# Altium schematic symbol library WCAP-PTHR.SchLib: 32 symbols
Pins are listed as number, name and electrical type; pins without a type are passive.

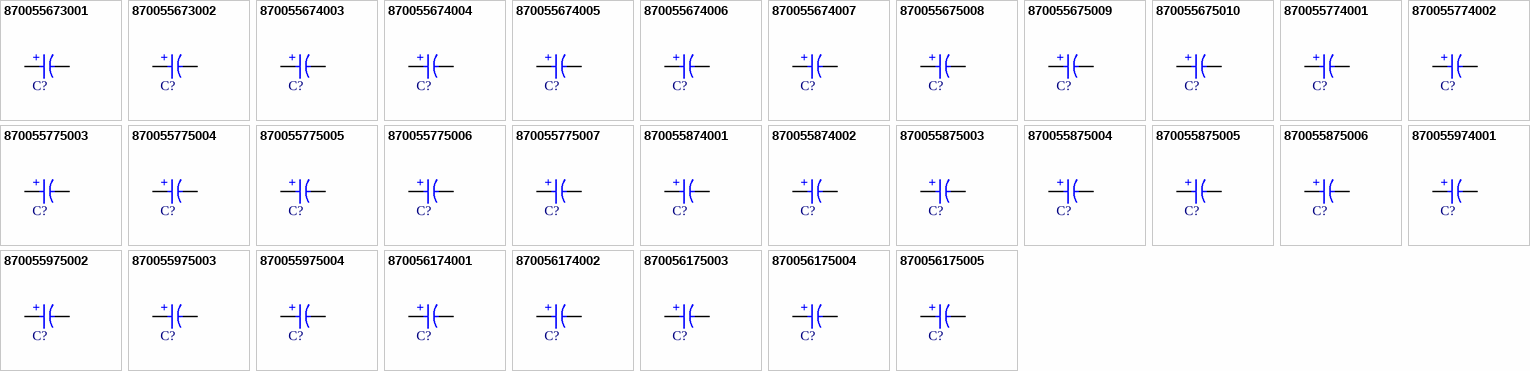
[diagram p0: symbols 870055673001 to 870056175005]

## 870055673001
designator C?, comment 10µF  (value not drawn)
WCAP-PTHR Aluminum Polymer Capacitor, Radial THT, D6.3 x H8mm, 10µF, 35V; Manufacturer Part Number: 870055673001; Manufacturer: Wurth Elektronik; Capacitance Tolerance: +/-20%; Dissipation Factor: 12%; Endurance: 2000h; ESR: 40mΩ; Leakage Current: 100µA; Ripple Current: 2100mA; Technical Reference: PTED080100M035DSPA4B000; Category: Aluminum Polymer Capacitors; Match Code: WCAP-PTHR; ComponentLink1Description: Website Link; ComponentLink1URL: https://www.we-online.com/redexpert/article/870055673001?ad; ComponentLink2Description: Datasheet Link; ComponentLink2URL: https://www.we-online.com/redexpert/spec/870055673001?ad; Mount: Through Hole; Operating Temperature Max: 105°C; Operating Temperature Min: -55°C; Packaging: Ammo Pack; Height: 8mm; Diameter: 6.3mm; Capacitance: 10µF; Rated Voltage (DC): 35V
footprint WCAP-PTHR_D6.3H8
simulation model 870055673001_10uF
pins: 1 P, 2 N
text: +

## 870055673002
designator C?, comment 22µF  (value not drawn)
WCAP-PTHR Aluminum Polymer Capacitor, Radial THT, D6.3 x H8mm, 22µF, 35V; Manufacturer Part Number: 870055673002; Manufacturer: Wurth Elektronik; Capacitance Tolerance: +/-20%; Dissipation Factor: 12%; Endurance: 2000h; ESR: 40mΩ; Leakage Current: 154µA; Ripple Current: 2100mA; Technical Reference: PTED080220M035DSPA4B000; Category: Aluminum Polymer Capacitors; Match Code: WCAP-PTHR; ComponentLink1Description: Website Link; ComponentLink1URL: https://www.we-online.com/redexpert/article/870055673002?ad; ComponentLink2Description: Datasheet Link; ComponentLink2URL: https://www.we-online.com/redexpert/spec/870055673002?ad; Mount: Through Hole; Operating Temperature Max: 105°C; Operating Temperature Min: -55°C; Packaging: Ammo Pack; Height: 8mm; Diameter: 6.3mm; Capacitance: 22µF; Rated Voltage (DC): 35V
footprint WCAP-PTHR_D6.3H8
simulation model 870055673002_22uF
pins: 1 P, 2 N
text: +

## 870055674003
designator C?, comment 33µF  (value not drawn)
WCAP-PTHR Aluminum Polymer Capacitor, Radial THT, D8 x H8mm, 33µF, 35V; Manufacturer Part Number: 870055674003; Manufacturer: Wurth Elektronik; Capacitance Tolerance: +/-20%; Dissipation Factor: 12%; Endurance: 2000h; ESR: 30mΩ; Leakage Current: 231µA; Ripple Current: 2500mA; Technical Reference: PTEE080330M035DSPA7B000; Category: Aluminum Polymer Capacitors; Match Code: WCAP-PTHR; ComponentLink1Description: Website Link; ComponentLink1URL: https://www.we-online.com/redexpert/article/870055674003?ad; ComponentLink2Description: Datasheet Link; ComponentLink2URL: https://www.we-online.com/redexpert/spec/870055674003?ad; Mount: Through Hole; Operating Temperature Max: 105°C; Operating Temperature Min: -55°C; Packaging: Ammo Pack; Height: 8mm; Diameter: 8mm; Capacitance: 33µF; Rated Voltage (DC): 35V
footprint WCAP-PTHR_D8H8
simulation model 870055674003_33uF
pins: 1 P, 2 N
text: +

## 870055674004
designator C?, comment 39µF  (value not drawn)
WCAP-PTHR Aluminum Polymer Capacitor, Radial THT, D8 x H8mm, 39µF, 35V; Manufacturer Part Number: 870055674004; Manufacturer: Wurth Elektronik; Capacitance Tolerance: +/-20%; Dissipation Factor: 12%; Endurance: 2000h; ESR: 30mΩ; Leakage Current: 273µA; Ripple Current: 2500mA; Technical Reference: PTEE080390M035DSPA7B000; Category: Aluminum Polymer Capacitors; Match Code: WCAP-PTHR; ComponentLink1Description: Website Link; ComponentLink1URL: https://www.we-online.com/redexpert/article/870055674004?ad; ComponentLink2Description: Datasheet Link; ComponentLink2URL: https://www.we-online.com/redexpert/spec/870055674004?ad; Mount: Through Hole; Operating Temperature Max: 105°C; Operating Temperature Min: -55°C; Packaging: Ammo Pack; Height: 8mm; Diameter: 8mm; Capacitance: 39µF; Rated Voltage (DC): 35V
footprint WCAP-PTHR_D8H8
simulation model 870055674004_39uF
pins: 1 P, 2 N
text: +

## 870055674005
designator C?, comment 47µF  (value not drawn)
WCAP-PTHR Aluminum Polymer Capacitor, Radial THT, D8 x H11.5mm, 47µF, 35V; Manufacturer Part Number: 870055674005; Manufacturer: Wurth Elektronik; Capacitance Tolerance: +/-20%; Dissipation Factor: 12%; Endurance: 2000h; ESR: 25mΩ; Leakage Current: 329µA; Ripple Current: 2890mA; Technical Reference: PTEE115470M035DSPA7B000; Category: Aluminum Polymer Capacitors; Match Code: WCAP-PTHR; ComponentLink1Description: Website Link; ComponentLink1URL: https://www.we-online.com/redexpert/article/870055674005?ad; ComponentLink2Description: Datasheet Link; ComponentLink2URL: https://www.we-online.com/redexpert/spec/870055674005?ad; Mount: Through Hole; Operating Temperature Max: 105°C; Operating Temperature Min: -55°C; Packaging: Ammo Pack; Height: 11.5mm; Diameter: 8mm; Capacitance: 47µF; Rated Voltage (DC): 35V
footprint WCAP-PTHR_D8H11.5
simulation model 870055674005_47uF
pins: 1 P, 2 N
text: +

## 870055674006
designator C?, comment 56µF  (value not drawn)
WCAP-PTHR Aluminum Polymer Capacitor, Radial THT, D8 x H11.5mm, 56µF, 35V; Manufacturer Part Number: 870055674006; Manufacturer: Wurth Elektronik; Capacitance Tolerance: +/-20%; Dissipation Factor: 12%; Endurance: 2000h; ESR: 25mΩ; Leakage Current: 392µA; Ripple Current: 2890mA; Technical Reference: PTEE115560M035DSPA7B000; Category: Aluminum Polymer Capacitors; Match Code: WCAP-PTHR; ComponentLink1Description: Website Link; ComponentLink1URL: https://www.we-online.com/redexpert/article/870055674006?ad; ComponentLink2Description: Datasheet Link; ComponentLink2URL: https://www.we-online.com/redexpert/spec/870055674006?ad; Mount: Through Hole; Operating Temperature Max: 105°C; Operating Temperature Min: -55°C; Packaging: Ammo Pack; Height: 11.5mm; Diameter: 8mm; Capacitance: 56µF; Rated Voltage (DC): 35V
footprint WCAP-PTHR_D8H11.5
simulation model 870055674006_56uF
pins: 1 P, 2 N
text: +

## 870055674007
designator C?, comment 68µF  (value not drawn)
WCAP-PTHR Aluminum Polymer Capacitor, Radial THT, D8 x H11.5mm, 68µF, 35V; Manufacturer Part Number: 870055674007; Manufacturer: Wurth Elektronik; Capacitance Tolerance: +/-20%; Dissipation Factor: 12%; Endurance: 2000h; ESR: 25mΩ; Leakage Current: 476µA; Ripple Current: 2890mA; Technical Reference: PTEE115680M035DSPA7B000; Category: Aluminum Polymer Capacitors; Match Code: WCAP-PTHR; ComponentLink1Description: Website Link; ComponentLink1URL: https://www.we-online.com/redexpert/article/870055674007?ad; ComponentLink2Description: Datasheet Link; ComponentLink2URL: https://www.we-online.com/redexpert/spec/870055674007?ad; Mount: Through Hole; Operating Temperature Max: 105°C; Operating Temperature Min: -55°C; Packaging: Ammo Pack; Height: 11.5mm; Diameter: 8mm; Capacitance: 68µF; Rated Voltage (DC): 35V
footprint WCAP-PTHR_D8H11.5
simulation model 870055674007_68uF
pins: 1 P, 2 N
text: +

## 870055675008
designator C?, comment 82µF  (value not drawn)
WCAP-PTHR Aluminum Polymer Capacitor, Radial THT, D10 x H12.5mm, 82µF, 35V; Manufacturer Part Number: 870055675008; Manufacturer: Wurth Elektronik; Capacitance Tolerance: +/-20%; Dissipation Factor: 12%; Endurance: 2000h; ESR: 25mΩ; Leakage Current: 574µA; Ripple Current: 3700mA; Technical Reference: PTEF125820M035DSPA9B000; Category: Aluminum Polymer Capacitors; Match Code: WCAP-PTHR; ComponentLink1Description: Website Link; ComponentLink1URL: https://www.we-online.com/redexpert/article/870055675008?ad; ComponentLink2Description: Datasheet Link; ComponentLink2URL: https://www.we-online.com/redexpert/spec/870055675008?ad; Mount: Through Hole; Operating Temperature Max: 105°C; Operating Temperature Min: -55°C; Packaging: Ammo Pack; Height: 12.5mm; Diameter: 10mm; Capacitance: 82µF; Rated Voltage (DC): 35V
footprint WCAP-PTHR_D10H12.5
simulation model 870055675008_82uF
pins: 1 P, 2 N
text: +

## 870055675009
designator C?, comment 100µF  (value not drawn)
WCAP-PTHR Aluminum Polymer Capacitor, Radial THT, D10 x H12.5mm, 100µF, 35V; Manufacturer Part Number: 870055675009; Manufacturer: Wurth Elektronik; Capacitance Tolerance: +/-20%; Dissipation Factor: 12%; Endurance: 2000h; ESR: 25mΩ; Leakage Current: 700µA; Ripple Current: 3700mA; Technical Reference: PTEF125101M035DSPA9B000; Category: Aluminum Polymer Capacitors; Match Code: WCAP-PTHR; ComponentLink1Description: Website Link; ComponentLink1URL: https://www.we-online.com/redexpert/article/870055675009?ad; ComponentLink2Description: Datasheet Link; ComponentLink2URL: https://www.we-online.com/redexpert/spec/870055675009?ad; Mount: Through Hole; Operating Temperature Max: 105°C; Operating Temperature Min: -55°C; Packaging: Ammo Pack; Height: 12.5mm; Diameter: 10mm; Capacitance: 100µF; Rated Voltage (DC): 35V
footprint WCAP-PTHR_D10H12.5
simulation model 870055675009_100uF
pins: 1 P, 2 N
text: +

## 870055675010
designator C?, comment 150µF  (value not drawn)
WCAP-PTHR Aluminum Polymer Capacitor, Radial THT, D10 x H12.5mm, 150µF, 35V; Manufacturer Part Number: 870055675010; Manufacturer: Wurth Elektronik; Capacitance Tolerance: +/-20%; Dissipation Factor: 12%; Endurance: 2000h; ESR: 25mΩ; Leakage Current: 1050µA; Ripple Current: 3700mA; Technical Reference: PTEF125151M035DSPA9B000; Category: Aluminum Polymer Capacitors; Match Code: WCAP-PTHR; ComponentLink1Description: Website Link; ComponentLink1URL: https://www.we-online.com/redexpert/article/870055675010?ad; ComponentLink2Description: Datasheet Link; ComponentLink2URL: https://www.we-online.com/redexpert/spec/870055675010?ad; Mount: Through Hole; Operating Temperature Max: 105°C; Operating Temperature Min: -55°C; Packaging: Ammo Pack; Height: 12.5mm; Diameter: 10mm; Capacitance: 150µF; Rated Voltage (DC): 35V
footprint WCAP-PTHR_D10H12.5
simulation model 870055675010_150uF
pins: 1 P, 2 N
text: +

## 870055774001
designator C?, comment 10µF  (value not drawn)
WCAP-PTHR Aluminum Polymer Capacitor, Radial THT, D8 x H8mm, 10µF, 50V; Manufacturer Part Number: 870055774001; Manufacturer: Wurth Elektronik; Capacitance Tolerance: +/-20%; Dissipation Factor: 12%; Endurance: 2000h; ESR: 45mΩ; Leakage Current: 100µA; Ripple Current: 1500mA; Technical Reference: PTEE080100M050DSPA7B000; Category: Aluminum Polymer Capacitors; Match Code: WCAP-PTHR; ComponentLink1Description: Website Link; ComponentLink1URL: https://www.we-online.com/redexpert/article/870055774001?ad; ComponentLink2Description: Datasheet Link; ComponentLink2URL: https://www.we-online.com/redexpert/spec/870055774001?ad; Mount: Through Hole; Operating Temperature Max: 105°C; Operating Temperature Min: -55°C; Packaging: Ammo Pack; Height: 8mm; Diameter: 8mm; Capacitance: 10µF; Rated Voltage (DC): 50V
footprint WCAP-PTHR_D8H8
simulation model 870055774001_10uF
pins: 1 P, 2 N
text: +

## 870055774002
designator C?, comment 22µF  (value not drawn)
WCAP-PTHR Aluminum Polymer Capacitor, Radial THT, D8 x H11.5mm, 22µF, 50V; Manufacturer Part Number: 870055774002; Manufacturer: Wurth Elektronik; Capacitance Tolerance: +/-20%; Dissipation Factor: 12%; Endurance: 2000h; ESR: 40mΩ; Leakage Current: 220µA; Ripple Current: 1800mA; Technical Reference: PTEE115220M050DSPA7B000; Category: Aluminum Polymer Capacitors; Match Code: WCAP-PTHR; ComponentLink1Description: Website Link; ComponentLink1URL: https://www.we-online.com/redexpert/article/870055774002?ad; ComponentLink2Description: Datasheet Link; ComponentLink2URL: https://www.we-online.com/redexpert/spec/870055774002?ad; Mount: Through Hole; Operating Temperature Max: 105°C; Operating Temperature Min: -55°C; Packaging: Ammo Pack; Height: 11.5mm; Diameter: 8mm; Capacitance: 22µF; Rated Voltage (DC): 50V
footprint WCAP-PTHR_D8H11.5
simulation model 870055774002_22uF
pins: 1 P, 2 N
text: +

## 870055775003
designator C?, comment 33µF  (value not drawn)
WCAP-PTHR Aluminum Polymer Capacitor, Radial THT, D10 x H12.5mm, 33µF, 50V; Manufacturer Part Number: 870055775003; Manufacturer: Wurth Elektronik; Capacitance Tolerance: +/-20%; Dissipation Factor: 12%; Endurance: 2000h; ESR: 35mΩ; Leakage Current: 330µA; Ripple Current: 2000mA; Technical Reference: PTEF125330M050DSPA9B000; Category: Aluminum Polymer Capacitors; Match Code: WCAP-PTHR; ComponentLink1Description: Website Link; ComponentLink1URL: https://www.we-online.com/redexpert/article/870055775003?ad; ComponentLink2Description: Datasheet Link; ComponentLink2URL: https://www.we-online.com/redexpert/spec/870055775003?ad; Mount: Through Hole; Operating Temperature Max: 105°C; Operating Temperature Min: -55°C; Packaging: Ammo Pack; Height: 12.5mm; Diameter: 10mm; Capacitance: 33µF; Rated Voltage (DC): 50V
footprint WCAP-PTHR_D10H12.5
simulation model 870055775003_33uF
pins: 1 P, 2 N
text: +

## 870055775004
designator C?, comment 39µF  (value not drawn)
WCAP-PTHR Aluminum Polymer Capacitor, Radial THT, D10 x H12.5mm, 39µF, 50V; Manufacturer Part Number: 870055775004; Manufacturer: Wurth Elektronik; Capacitance Tolerance: +/-20%; Dissipation Factor: 12%; Endurance: 2000h; ESR: 35mΩ; Leakage Current: 390µA; Ripple Current: 2000mA; Technical Reference: PTEF125390M050DSPA9B000; Category: Aluminum Polymer Capacitors; Match Code: WCAP-PTHR; ComponentLink1Description: Website Link; ComponentLink1URL: https://www.we-online.com/redexpert/article/870055775004?ad; ComponentLink2Description: Datasheet Link; ComponentLink2URL: https://www.we-online.com/redexpert/spec/870055775004?ad; Mount: Through Hole; Operating Temperature Max: 105°C; Operating Temperature Min: -55°C; Packaging: Ammo Pack; Height: 12.5mm; Diameter: 10mm; Capacitance: 39µF; Rated Voltage (DC): 50V
footprint WCAP-PTHR_D10H12.5
simulation model 870055775004_39uF
pins: 1 P, 2 N
text: +

## 870055775005
designator C?, comment 47µF  (value not drawn)
WCAP-PTHR Aluminum Polymer Capacitor, Radial THT, D10 x H12.5mm, 47µF, 50V; Manufacturer Part Number: 870055775005; Manufacturer: Wurth Elektronik; Capacitance Tolerance: +/-20%; Dissipation Factor: 12%; Endurance: 2000h; ESR: 35mΩ; Leakage Current: 470µA; Ripple Current: 2000mA; Technical Reference: PTEF125470M050DSPA9B000; Category: Aluminum Polymer Capacitors; Match Code: WCAP-PTHR; ComponentLink1Description: Website Link; ComponentLink1URL: https://www.we-online.com/redexpert/article/870055775005?ad; ComponentLink2Description: Datasheet Link; ComponentLink2URL: https://www.we-online.com/redexpert/spec/870055775005?ad; Mount: Through Hole; Operating Temperature Max: 105°C; Operating Temperature Min: -55°C; Packaging: Ammo Pack; Height: 12.5mm; Diameter: 10mm; Capacitance: 47µF; Rated Voltage (DC): 50V
footprint WCAP-PTHR_D10H12.5
simulation model 870055775005_47uF
pins: 1 P, 2 N
text: +

## 870055775006
designator C?, comment 56µF  (value not drawn)
WCAP-PTHR Aluminum Polymer Capacitor, Radial THT, D10 x H12.5mm, 56µF, 50V; Manufacturer Part Number: 870055775006; Manufacturer: Wurth Elektronik; Capacitance Tolerance: +/-20%; Dissipation Factor: 12%; Endurance: 2000h; ESR: 35mΩ; Leakage Current: 560µA; Ripple Current: 2000mA; Technical Reference: PTEF125560M050DSPA9B000; Category: Aluminum Polymer Capacitors; Match Code: WCAP-PTHR; ComponentLink1Description: Website Link; ComponentLink1URL: https://www.we-online.com/redexpert/article/870055775006?ad; ComponentLink2Description: Datasheet Link; ComponentLink2URL: https://www.we-online.com/redexpert/spec/870055775006?ad; Mount: Through Hole; Operating Temperature Max: 105°C; Operating Temperature Min: -55°C; Packaging: Ammo Pack; Height: 12.5mm; Diameter: 10mm; Capacitance: 56µF; Rated Voltage (DC): 50V
footprint WCAP-PTHR_D10H12.5
simulation model 870055775006_56uF
pins: 1 P, 2 N
text: +

## 870055775007
designator C?, comment 68µF  (value not drawn)
WCAP-PTHR Aluminum Polymer Capacitor, Radial THT, D10 x H12.5mm, 68µF, 50V; Manufacturer Part Number: 870055775007; Manufacturer: Wurth Elektronik; Capacitance Tolerance: +/-20%; Dissipation Factor: 12%; Endurance: 2000h; ESR: 35mΩ; Leakage Current: 680µA; Ripple Current: 2000mA; Technical Reference: PTEF125680M050DSPA9B000; Category: Aluminum Polymer Capacitors; Match Code: WCAP-PTHR; ComponentLink1Description: Website Link; ComponentLink1URL: https://www.we-online.com/redexpert/article/870055775007?ad; ComponentLink2Description: Datasheet Link; ComponentLink2URL: https://www.we-online.com/redexpert/spec/870055775007?ad; Mount: Through Hole; Operating Temperature Max: 105°C; Operating Temperature Min: -55°C; Packaging: Ammo Pack; Height: 12.5mm; Diameter: 10mm; Capacitance: 68µF; Rated Voltage (DC): 50V
footprint WCAP-PTHR_D10H12.5
simulation model 870055775007_68uF
pins: 1 P, 2 N
text: +

## 870055874001
designator C?, comment 10µF  (value not drawn)
WCAP-PTHR Aluminum Polymer Capacitor, Radial THT, D8 x H11.5mm, 10µF, 63V; Manufacturer Part Number: 870055874001; Manufacturer: Wurth Elektronik; Capacitance Tolerance: +/-20%; Dissipation Factor: 12%; Endurance: 2000h; ESR: 55mΩ; Leakage Current: 126µA; Ripple Current: 1400mA; Technical Reference: PTEE115100M063DSPA7B000; Category: Aluminum Polymer Capacitors; Match Code: WCAP-PTHR; ComponentLink1Description: Website Link; ComponentLink1URL: https://www.we-online.com/redexpert/article/870055874001?ad; ComponentLink2Description: Datasheet Link; ComponentLink2URL: https://www.we-online.com/redexpert/spec/870055874001?ad; Mount: Through Hole; Operating Temperature Max: 105°C; Operating Temperature Min: -55°C; Packaging: Ammo Pack; Height: 11.5mm; Diameter: 8mm; Capacitance: 10µF; Rated Voltage (DC): 63V
footprint WCAP-PTHR_D8H11.5
simulation model 870055874001_10uF
pins: 1 P, 2 N
text: +

## 870055874002
designator C?, comment 22µF  (value not drawn)
WCAP-PTHR Aluminum Polymer Capacitor, Radial THT, D8 x H11.5mm, 22µF, 63V; Manufacturer Part Number: 870055874002; Manufacturer: Wurth Elektronik; Capacitance Tolerance: +/-20%; Dissipation Factor: 12%; Endurance: 2000h; ESR: 55mΩ; Leakage Current: 277.2µA; Ripple Current: 1400mA; Technical Reference: PTEE115220M063DSPA7B000; Category: Aluminum Polymer Capacitors; Match Code: WCAP-PTHR; ComponentLink1Description: Website Link; ComponentLink1URL: https://www.we-online.com/redexpert/article/870055874002?ad; ComponentLink2Description: Datasheet Link; ComponentLink2URL: https://www.we-online.com/redexpert/spec/870055874002?ad; Mount: Through Hole; Operating Temperature Max: 105°C; Operating Temperature Min: -55°C; Packaging: Ammo Pack; Height: 11.5mm; Diameter: 8mm; Capacitance: 22µF; Rated Voltage (DC): 63V
footprint WCAP-PTHR_D8H11.5
simulation model 870055874002_22uF
pins: 1 P, 2 N
text: +

## 870055875003
designator C?, comment 33µF  (value not drawn)
WCAP-PTHR Aluminum Polymer Capacitor, Radial THT, D10 x H12.5mm, 33µF, 63V; Manufacturer Part Number: 870055875003; Manufacturer: Wurth Elektronik; Capacitance Tolerance: +/-20%; Dissipation Factor: 12%; Endurance: 2000h; ESR: 50mΩ; Leakage Current: 415.8µA; Ripple Current: 1600mA; Technical Reference: PTEF125330M063DSPA9B000; Category: Aluminum Polymer Capacitors; Match Code: WCAP-PTHR; ComponentLink1Description: Website Link; ComponentLink1URL: https://www.we-online.com/redexpert/article/870055875003?ad; ComponentLink2Description: Datasheet Link; ComponentLink2URL: https://www.we-online.com/redexpert/spec/870055875003?ad; Mount: Through Hole; Operating Temperature Max: 105°C; Operating Temperature Min: -55°C; Packaging: Ammo Pack; Height: 12.5mm; Diameter: 10mm; Capacitance: 33µF; Rated Voltage (DC): 63V
footprint WCAP-PTHR_D10H12.5
simulation model 870055875003_33uF
pins: 1 P, 2 N
text: +

## 870055875004
designator C?, comment 39µF  (value not drawn)
WCAP-PTHR Aluminum Polymer Capacitor, Radial THT, D10 x H12.5mm, 39µF, 63V; Manufacturer Part Number: 870055875004; Manufacturer: Wurth Elektronik; Capacitance Tolerance: +/-20%; Dissipation Factor: 12%; Endurance: 2000h; ESR: 50mΩ; Leakage Current: 491.4µA; Ripple Current: 1600mA; Technical Reference: PTEF125390M063DSPA9B000; Category: Aluminum Polymer Capacitors; Match Code: WCAP-PTHR; ComponentLink1Description: Website Link; ComponentLink1URL: https://www.we-online.com/redexpert/article/870055875004?ad; ComponentLink2Description: Datasheet Link; ComponentLink2URL: https://www.we-online.com/redexpert/spec/870055875004?ad; Mount: Through Hole; Operating Temperature Max: 105°C; Operating Temperature Min: -55°C; Packaging: Ammo Pack; Height: 12.5mm; Diameter: 10mm; Capacitance: 39µF; Rated Voltage (DC): 63V
footprint WCAP-PTHR_D10H12.5
simulation model 870055875004_39uF
pins: 1 P, 2 N
text: +

## 870055875005
designator C?, comment 47µF  (value not drawn)
WCAP-PTHR Aluminum Polymer Capacitor, Radial THT, D10 x H12.5mm, 47µF, 63V; Manufacturer Part Number: 870055875005; Manufacturer: Wurth Elektronik; Capacitance Tolerance: +/-20%; Dissipation Factor: 12%; Endurance: 2000h; ESR: 50mΩ; Leakage Current: 592.2µA; Ripple Current: 1600mA; Technical Reference: PTEF125470M063DSPA9B000; Category: Aluminum Polymer Capacitors; Match Code: WCAP-PTHR; ComponentLink1Description: Website Link; ComponentLink1URL: https://www.we-online.com/redexpert/article/870055875005?ad; ComponentLink2Description: Datasheet Link; ComponentLink2URL: https://www.we-online.com/redexpert/spec/870055875005?ad; Mount: Through Hole; Operating Temperature Max: 105°C; Operating Temperature Min: -55°C; Packaging: Ammo Pack; Height: 12.5mm; Diameter: 10mm; Capacitance: 47µF; Rated Voltage (DC): 63V
footprint WCAP-PTHR_D10H12.5
simulation model 870055875005_47uF
pins: 1 P, 2 N
text: +

## 870055875006
designator C?, comment 56µF  (value not drawn)
WCAP-PTHR Aluminum Polymer Capacitor, Radial THT, D10 x H12.5mm, 56µF, 63V; Manufacturer Part Number: 870055875006; Manufacturer: Wurth Elektronik; Capacitance Tolerance: +/-20%; Dissipation Factor: 12%; Endurance: 2000h; ESR: 50mΩ; Leakage Current: 705.6µA; Ripple Current: 1600mA; Technical Reference: PTEF125560M063DSPA9B000; Category: Aluminum Polymer Capacitors; Match Code: WCAP-PTHR; ComponentLink1Description: Website Link; ComponentLink1URL: https://www.we-online.com/redexpert/article/870055875006?ad; ComponentLink2Description: Datasheet Link; ComponentLink2URL: https://www.we-online.com/redexpert/spec/870055875006?ad; Mount: Through Hole; Operating Temperature Max: 105°C; Operating Temperature Min: -55°C; Packaging: Ammo Pack; Height: 12.5mm; Diameter: 10mm; Capacitance: 56µF; Rated Voltage (DC): 63V
footprint WCAP-PTHR_D10H12.5
simulation model 870055875006_56uF
pins: 1 P, 2 N
text: +

## 870055974001
designator C?, comment 10µF  (value not drawn)
WCAP-PTHR Aluminum Polymer Capacitor, Radial THT, D8 x H11.5mm, 10µF, 100V; Manufacturer Part Number: 870055974001; Manufacturer: Wurth Elektronik; Capacitance Tolerance: +/-20%; Dissipation Factor: 12%; Endurance: 2000h; ESR: 55mΩ; Leakage Current: 200µA; Ripple Current: 1400mA; Technical Reference: PTEE115100M100DSPA7B000; Category: Aluminum Polymer Capacitors; Match Code: WCAP-PTHR; ComponentLink1Description: Website Link; ComponentLink1URL: https://www.we-online.com/redexpert/article/870055974001?ad; ComponentLink2Description: Datasheet Link; ComponentLink2URL: https://www.we-online.com/redexpert/spec/870055974001?ad; Mount: Through Hole; Operating Temperature Max: 105°C; Operating Temperature Min: -55°C; Packaging: Ammo Pack; Height: 11.5mm; Diameter: 8mm; Capacitance: 10µF; Rated Voltage (DC): 100V
footprint WCAP-PTHR_D8H11.5
simulation model 870055974001_10uF
pins: 1 P, 2 N
text: +

## 870055975002
designator C?, comment 22µF  (value not drawn)
WCAP-PTHR Aluminum Polymer Capacitor, Radial THT, D10 x H12.5mm, 22µF, 100V; Manufacturer Part Number: 870055975002; Manufacturer: Wurth Elektronik; Capacitance Tolerance: +/-20%; Dissipation Factor: 12%; Endurance: 2000h; ESR: 50mΩ; Leakage Current: 440µA; Ripple Current: 1600mA; Technical Reference: PTEF125220M100DSPA9B000; Category: Aluminum Polymer Capacitors; Match Code: WCAP-PTHR; ComponentLink1Description: Website Link; ComponentLink1URL: https://www.we-online.com/redexpert/article/870055975002?ad; ComponentLink2Description: Datasheet Link; ComponentLink2URL: https://www.we-online.com/redexpert/spec/870055975002?ad; Mount: Through Hole; Operating Temperature Max: 105°C; Operating Temperature Min: -55°C; Packaging: Ammo Pack; Height: 12.5mm; Diameter: 10mm; Capacitance: 22µF; Rated Voltage (DC): 100V
footprint WCAP-PTHR_D10H12.5
simulation model 870055975002_22uF
pins: 1 P, 2 N
text: +

## 870055975003
designator C?, comment 33µF  (value not drawn)
WCAP-PTHR Aluminum Polymer Capacitor, Radial THT, D10 x H12.5mm, 33µF, 100V; Manufacturer Part Number: 870055975003; Manufacturer: Wurth Elektronik; Capacitance Tolerance: +/-20%; Dissipation Factor: 12%; Endurance: 2000h; ESR: 50mΩ; Leakage Current: 660µA; Ripple Current: 1600mA; Technical Reference: PTEF125330M100DSPA9B000; Category: Aluminum Polymer Capacitors; Match Code: WCAP-PTHR; ComponentLink1Description: Website Link; ComponentLink1URL: https://www.we-online.com/redexpert/article/870055975003?ad; ComponentLink2Description: Datasheet Link; ComponentLink2URL: https://www.we-online.com/redexpert/spec/870055975003?ad; Mount: Through Hole; Operating Temperature Max: 105°C; Operating Temperature Min: -55°C; Packaging: Ammo Pack; Height: 12.5mm; Diameter: 10mm; Capacitance: 33µF; Rated Voltage (DC): 100V
footprint WCAP-PTHR_D10H12.5
simulation model 870055975003_33uF
pins: 1 P, 2 N
text: +

## 870055975004
designator C?, comment 47µF  (value not drawn)
WCAP-PTHR Aluminum Polymer Capacitor, Radial THT, D10 x H12.5mm, 47µF, 100V; Manufacturer Part Number: 870055975004; Manufacturer: Wurth Elektronik; Capacitance Tolerance: +/-20%; Dissipation Factor: 12%; Endurance: 2000h; ESR: 50mΩ; Leakage Current: 940µA; Ripple Current: 1600mA; Technical Reference: PTEF125470M100DSPA9B000; Category: Aluminum Polymer Capacitors; Match Code: WCAP-PTHR; ComponentLink1Description: Website Link; ComponentLink1URL: https://www.we-online.com/redexpert/article/870055975004?ad; ComponentLink2Description: Datasheet Link; ComponentLink2URL: https://www.we-online.com/redexpert/spec/870055975004?ad; Mount: Through Hole; Operating Temperature Max: 105°C; Operating Temperature Min: -55°C; Packaging: Ammo Pack; Height: 12.5mm; Diameter: 10mm; Capacitance: 47µF; Rated Voltage (DC): 100V
footprint WCAP-PTHR_D10H12.5
simulation model 870055975004_47uF
pins: 1 P, 2 N
text: +

## 870056174001
designator C?, comment 10µF  (value not drawn)
WCAP-PTHR Aluminum Polymer Capacitor, Radial THT, D8 x H8mm, 10µF, 80V; Manufacturer Part Number: 870056174001; Manufacturer: Wurth Elektronik; Capacitance Tolerance: +/-20%; Dissipation Factor: 12%; Endurance: 2000h; ESR: 45mΩ; Leakage Current: 160µA; Ripple Current: 1900mA; Technical Reference: PTEE080100M080DSPA7B000; Category: Aluminum Polymer Capacitors; Match Code: WCAP-PTHR; ComponentLink1Description: Website Link; ComponentLink1URL: https://www.we-online.com/redexpert/article/870056174001?ad; ComponentLink2Description: Datasheet Link; ComponentLink2URL: https://www.we-online.com/redexpert/spec/870056174001?ad; Mount: Through Hole; Operating Temperature Max: 105°C; Operating Temperature Min: -55°C; Packaging: Ammo Pack; Height: 8mm; Diameter: 8mm; Capacitance: 10µF; Rated Voltage (DC): 80V
footprint WCAP-PTHR_D8H8
simulation model 870056174001_10uF
pins: 1 P, 2 N
text: +

## 870056174002
designator C?, comment 12µF  (value not drawn)
WCAP-PTHR Aluminum Polymer Capacitor, Radial THT, D8 x H11.5mm, 12µF, 80V; Manufacturer Part Number: 870056174002; Manufacturer: Wurth Elektronik; Capacitance Tolerance: +/-20%; Dissipation Factor: 12%; Endurance: 2000h; ESR: 38mΩ; Leakage Current: 192µA; Ripple Current: 2100mA; Technical Reference: PTEE115120M080DSPA7B000; Category: Aluminum Polymer Capacitors; Match Code: WCAP-PTHR; ComponentLink1Description: Website Link; ComponentLink1URL: https://www.we-online.com/redexpert/article/870056174002?ad; ComponentLink2Description: Datasheet Link; ComponentLink2URL: https://www.we-online.com/redexpert/spec/870056174002?ad; Mount: Through Hole; Operating Temperature Max: 105°C; Operating Temperature Min: -55°C; Packaging: Ammo Pack; Height: 11.5mm; Diameter: 8mm; Capacitance: 12µF; Rated Voltage (DC): 80V
footprint WCAP-PTHR_D8H11.5
simulation model 870056174002_12uF
pins: 1 P, 2 N
text: +

## 870056175003
designator C?, comment 22µF  (value not drawn)
WCAP-PTHR Aluminum Polymer Capacitor, Radial THT, D10 x H12.5mm, 22µF, 80V; Manufacturer Part Number: 870056175003; Manufacturer: Wurth Elektronik; Capacitance Tolerance: +/-20%; Dissipation Factor: 12%; Endurance: 2000h; ESR: 35mΩ; Leakage Current: 352µA; Ripple Current: 2800mA; Technical Reference: PTEF125220M080DSPA9B000; Category: Aluminum Polymer Capacitors; Match Code: WCAP-PTHR; ComponentLink1Description: Website Link; ComponentLink1URL: https://www.we-online.com/redexpert/article/870056175003?ad; ComponentLink2Description: Datasheet Link; ComponentLink2URL: https://www.we-online.com/redexpert/spec/870056175003?ad; Mount: Through Hole; Operating Temperature Max: 105°C; Operating Temperature Min: -55°C; Packaging: Ammo Pack; Height: 12.5mm; Diameter: 10mm; Capacitance: 22µF; Rated Voltage (DC): 80V
footprint WCAP-PTHR_D10H12.5
simulation model 870056175003_22uF
pins: 1 P, 2 N
text: +

## 870056175004
designator C?, comment 27µF  (value not drawn)
WCAP-PTHR Aluminum Polymer Capacitor, Radial THT, D10 x H12.5mm, 27µF, 80V; Manufacturer Part Number: 870056175004; Manufacturer: Wurth Elektronik; Capacitance Tolerance: +/-20%; Dissipation Factor: 12%; Endurance: 2000h; ESR: 35mΩ; Leakage Current: 432µA; Ripple Current: 2800mA; Technical Reference: PTEF125270M080DSPA9B000; Category: Aluminum Polymer Capacitors; Match Code: WCAP-PTHR; ComponentLink1Description: Website Link; ComponentLink1URL: https://www.we-online.com/redexpert/article/870056175004?ad; ComponentLink2Description: Datasheet Link; ComponentLink2URL: https://www.we-online.com/redexpert/spec/870056175004?ad; Mount: Through Hole; Operating Temperature Max: 105°C; Operating Temperature Min: -55°C; Packaging: Ammo Pack; Height: 12.5mm; Diameter: 10mm; Capacitance: 27µF; Rated Voltage (DC): 80V
footprint WCAP-PTHR_D10H12.5
simulation model 870056175004_27uF
pins: 1 P, 2 N
text: +

## 870056175005
designator C?, comment 33µF  (value not drawn)
WCAP-PTHR Aluminum Polymer Capacitor, Radial THT, D10 x H12.5mm, 33µF, 80V; Manufacturer Part Number: 870056175005; Manufacturer: Wurth Elektronik; Capacitance Tolerance: +/-20%; Dissipation Factor: 12%; Endurance: 2000h; ESR: 35mΩ; Leakage Current: 528µA; Ripple Current: 2800mA; Technical Reference: PTEF125330M080DSPA9B000; Category: Aluminum Polymer Capacitors; Match Code: WCAP-PTHR; ComponentLink1Description: Website Link; ComponentLink1URL: https://www.we-online.com/redexpert/article/870056175005?ad; ComponentLink2Description: Datasheet Link; ComponentLink2URL: https://www.we-online.com/redexpert/spec/870056175005?ad; Mount: Through Hole; Operating Temperature Max: 105°C; Operating Temperature Min: -55°C; Packaging: Ammo Pack; Height: 12.5mm; Diameter: 10mm; Capacitance: 33µF; Rated Voltage (DC): 80V
footprint WCAP-PTHR_D10H12.5
simulation model 870056175005_33uF
pins: 1 P, 2 N
text: +